# Altium footprint library TF.PcbLib: 1 footprints
Each footprint in its own frame and in the unit in brackets; x right, y up, seen from the top. Pads: shape width x height; smd on the part's side, far side on the other; paste and mask are expansions set on the pad; w line width, h text height; cw(c..) or ccw(c..) is an arc to the next point about the centre after c.
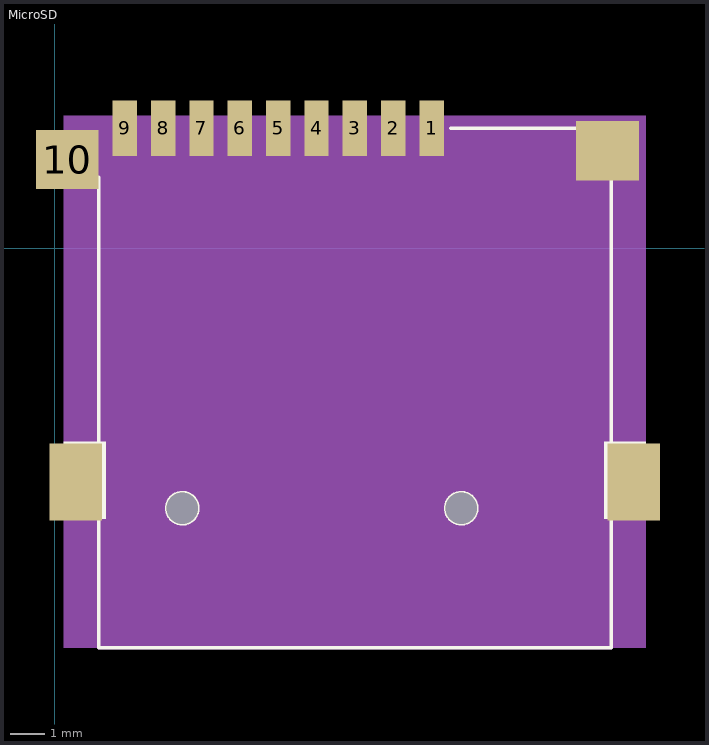
[diagram p0: the footprint, top view; thin cyan lines are the x and y axes]

## MicroSD [mil]
pads (15):
  rect 27.6x63 smd: 1(425.6,135.4) 2(382.3,135.4) 3(339,135.4) 4(295.7,135.4) 5(252.4,135.4) 6(209.1,135.4) 7(165.8,135.4) 8(122.5,135.4) 9(79.2,135.4)
  rect 70.9x66.9 smd: 10(14.2,100) " "(624.4,109.8)
  rect 59.1x86.6 smd: " "(24,-264.2) " "(654,-264.2)
  round 35.4 hole 35.4: " "(144.1,-293.7) " "(459.1,-293.7)
Top Overlay:
  circle w3.9: c144.12,-293.7 r17.7
  circle w3.9: c459.08,-293.7 r17.7
  pour cut-out: 620.5,-218.9 667.7,-218.9 667.7,-305.5 620.5,-305.5
  pour cut-out: 10.3,-218.9 57.5,-218.9 57.5,-305.5 10.3,-305.5
  lines w3.9: 49.6,80.3 49.6,-451.2 628.4,-451.2 628.4,135.4 447.3,135.4
Mechanical 7:
  text "5" at 252.4,145.48 h25.2
  text "4" at 295.7,145.48 h25.2
  text "8" at 122.5,145.48 h25.2
  text "1" at 425.6,145.48 h25.2
  text "2" at 382.3,145.48 h25.2
  text "3" at 339,145.48 h25.2
  text "9" at 79.2,145.48 h25.2
  text "7" at 165.8,145.48 h25.2
  text "10" at -35.8,140.32 h25.2
  text "6" at 209.1,145.48 h25.2
Mechanical 8:
  lines w3.9: 49.6,-309.45 49.6,-451.2 628.4,-451.2 628.4,-309.45 ; 49.6,-218.95 49.6,64.6 ; 447.3,135.4 587,135.4 ; 628.4,-218.95 628.4,74.4
Mechanical 10:
  region: 10.3,-451.2 667.7,-451.2 667.7,149.2 10.3,149.2
3D body: height 72.83, standoff -23.62, extent 22.07,-450.66 655.93,140